# EAGLE library part MAX636 (library bt_regulator)
MAX635, MAX636, MAX637 Inverting Switching Regulator The MAX635/MAX636/MAX637 inverting switching regulators are designed for minimum component DC-DC conversion in the 5mw to 500mW range. datasheet.pdf <https://www.analog.com/media/en/technical-documentation/data-sheets/max635-max637.pdf>
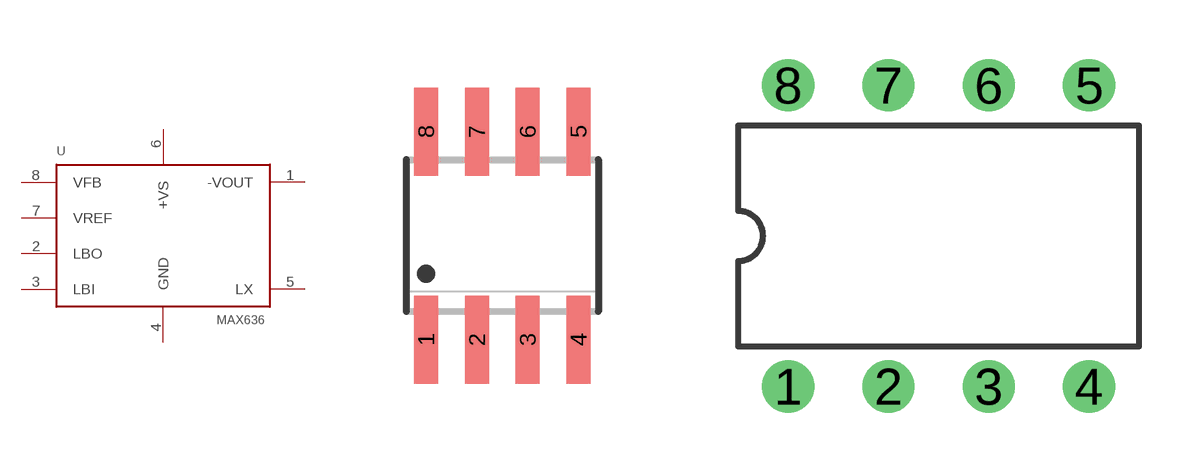
[diagram p11: symbol with the pads of SO08; footprints SO08, PDIP8]

Designator prefix U

## MAX636SO8  [SO08]
1  -VOUT  sup
2  LBO
3  LBI
4  GND  sup
5  LX
6  +VS  sup
7  VREF
8  VFB

## MAX636DIP  [PDIP8]
Pads as for SO08

## Footprint SO08 (pad centres in mm)
SMALL OUTLINE INTEGRATED CIRCUIT body 3.9 mm/JEDEC MS-012AA
smd 0.6 x 2.2: 1 -1.905,-2.6; 2 -0.635,-2.6; 3 0.635,-2.6; 4 1.905,-2.6; 5 1.905,2.6; 6 0.635,2.6; 7 -0.635,2.6; 8 -1.905,2.6

## Footprint PDIP8 (pad centres in mm)
PDIP8/DIP8/DIL8
drill 0.813: 1 -3.81,-3.81; 2 -1.27,-3.81; 3 1.27,-3.81; 4 3.81,-3.81; 5 3.81,3.81; 6 1.27,3.81; 7 -1.27,3.81; 8 -3.81,3.81